# Altium schematic symbol library iv_ic.SchLib: 33 symbols
Pins are listed as number, name and electrical type; pins without a type are passive.

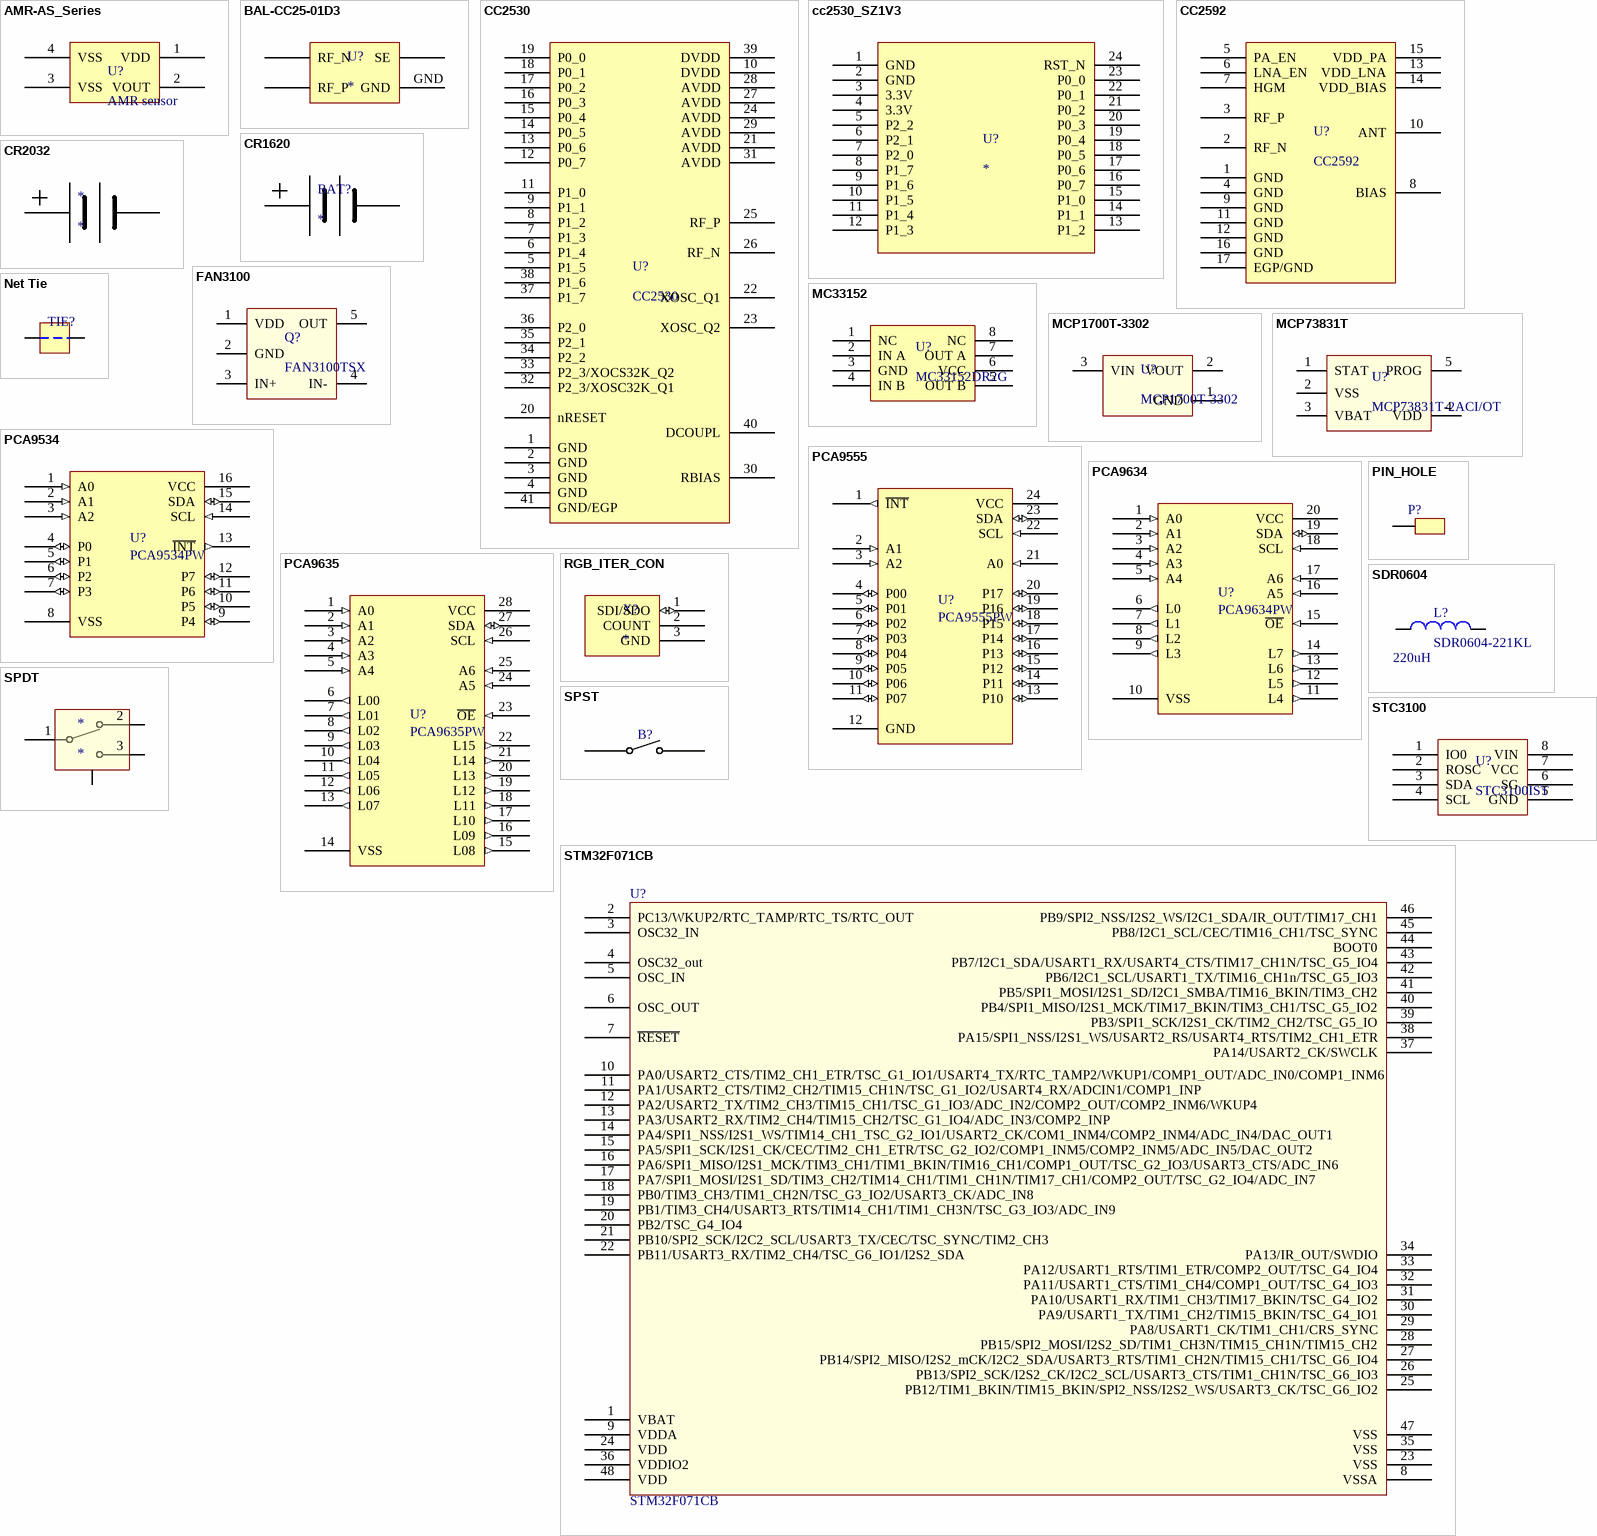
[diagram p0: symbols AMR-AS_Series to STM32F071CB]

## AMR-AS_Series
designator U?, comment AMR sensor
Murata magnetic switch (AMR sensor) AS series
footprint AS-M15KA-R
pins: 1 VDD, 2 VOUT, 3 VSS, 4 VSS

## BAL-CC25-01D3
designator U?
footprint BGA4C50P2X2_94X94X63 (BGA, 4-Leads, Body 0.94x0.94mmx0.63mm, Pitch 0.50mm)
pins: GND, RF_N, RF_P, SE

## CC2530
designator U?
footprint PQFN50P600X600X100_HS-41M (PQFN, 40-Leads, Body 6,00x6,00mm, Pitch 0,50mm, Thermal Pad 4,5x4,5mm, IPC Low Density)
pins: 1 GND, 2 GND, 3 GND, 4 GND, 5 P1_5, 6 P1_4, 7 P1_3, 8 P1_2, 9 P1_1, 10 DVDD, 11 P1_0, 12 P0_7, 13 P0_6, 14 P0_5, 15 P0_4, 16 P0_3, 17 P0_2, 18 P0_1, 19 P0_0, 20 nRESET, 21 AVDD, 22 XOSC_Q1, 23 XOSC_Q2, 24 AVDD, 25 RF_P, 26 RF_N, 27 AVDD, 28 AVDD, 29 AVDD, 30 RBIAS, 31 AVDD, 32 P2_3/XOSC32K_Q1, 33 P2_3/XOCS32K_Q2, 34 P2_2, 35 P2_1, 36 P2_0, 37 P1_7, 38 P1_6, 39 DVDD, 40 DCOUPL, 41 GND/EGP

## cc2530_SZ1V3
designator U?
footprint CC2530_MODULE (SOIC, 24-Leads, Body 10.30x20.33mm, Pitch 1.27mm, IPC Medium Density)
footprint CC2530_MODULE TH (SOIC, 24-Leads, Body 10.30x20.33mm, Pitch 1.27mm, IPC Medium Density)
pins: 1 GND, 2 GND, 3 3.3V, 4 3.3V, 5 P2_2, 6 P2_1, 7 P2_0, 8 P1_7, 9 P1_6, 10 P1_5, 11 P1_4, 12 P1_3, 13 P1_2, 14 P1_1, 15 P1_0, 16 P0_7, 17 P0_6, 18 P0_5, 19 P0_4, 20 P0_3, 21 P0_2, 22 P0_1, 23 P0_0, 24 RST_N

## CC2592
designator U?
pins: 1 GND, 2 RF_N, 3 RF_P, 4 GND, 5 PA_EN, 6 LNA_EN, 7 HGM, 8 BIAS, 9 GND, 10 ANT, 11 GND, 12 GND, 13 VDD_LNA, 14 VDD_BIAS, 15 VDD_PA, 16 GND, 17 EGP/GND

## CR1620
designator BAT?
footprint BHX1-1620-SM
pins: 1 +, 2 -

## CR2032
designator *
footprint BH810
footprint CH-28-2032
footprint BK-888
pins: 1 +, 2 -

## FAN3100
designator Q?, comment FAN3100TSX
footprint SOT95P285X115-5M (SOT23, 5-Leads, Body 2,95x2,85mm, Pitch 0,95mm, IPC Low Density)
footprint SOT95P285X115-5N (SOT23, 5-Leads, Body 2,95x2,85mm, Pitch 0,95mm, IPC Medium Density)
footprint SOT95P285X115-5L (SOT23, 5-Leads, Body 2,95x2,85mm, Pitch 0,95mm, IPC High Density)
pins: 1 VDD, 2 GND, 3 IN+, 4 IN-, 5 OUT

## MC33152
designator U?, comment MC33152DR2G
High Speed Dual  MOSFET Drivers
footprint SO-8_M (SOIC, 8-Leads, Body 4.9x3.9mm, Pitch 1.27mm, IPC Low Density)
footprint SO-8_L (SOIC, 8-Leads, Body 4.9x3.9mm, Pitch 1.27mm, IPC High Density)
footprint SO-8_N (SOIC, 8-Leads, Body 4.9x3.9mm, Pitch 1.27mm, IPC Medium Density)
pins: 1 NC, 2 IN A, 3 GND, 4 IN B, 5 OUT B, 6 VCC, 7 OUT A, 8 NC

## MCP1700T-3302
designator U?
Low Quiescent Current LDO, 3-Pin SOT-23, Extended Temperature, Tape and Reel
footprint SOT95P248X115-3L (SOT23, 3-Leads, Body 2,95x2,48mm, Pitch 0,95mm, IPC High Density)
footprint SOT95P248X115-3M (SOT23, 3-Leads, Body 2,95x2,48mm, Pitch 0,95mm, IPC Low Density)
footprint SOT95P248X115-3N (SOT23, 3-Leads, Body 2,95x2,48mm, Pitch 0,95mm, IPC Medium Density)
pins: 1 GND, 2 VOUT, 3 VIN

## MCP73831T
designator U?, comment MCP73831T-2ACI/OT
Miniature Single-Cell, Fully Integrated Li-Ion, Li-Polymer Charge Management Controller, 4.35V, 5-Pin SOT-23, Industrial Temperature, Tape and Reel
footprint SOT95P285X115-5L (SOT23, 5-Leads, Body 2,95x2,85mm, Pitch 0,95mm, IPC High Density)
footprint SOT95P285X115-5M (SOT23, 5-Leads, Body 2,95x2,85mm, Pitch 0,95mm, IPC Low Density)
footprint SOT95P285X115-5N (SOT23, 5-Leads, Body 2,95x2,85mm, Pitch 0,95mm, IPC Medium Density)
pins: 1 STAT, 2 VSS, 3 VBAT, 4 VDD, 5 PROG

## Net Tie
designator TIE?  (value not drawn)  (net tie, no BOM)
PCB Net tie
footprint TIE
pins: 0, 0

## PCA9534
designator U?, comment PCA9534PW
8-bit I2C-bus and SMBus low power I/O port with interrupt
footprint TSOP65P640X120-16L (TSOP, 16-Leads, Body 5.00x4.40mm, Pitch 0.65mm, IPC High Density)
footprint TSOP65P640X120-16M (TSOP, 16-Leads, Body 5.00x4.40mm, Pitch 0.65mm, IPC Low Density)
footprint TSOP65P640X120-16N (TSOP, 16-Leads, Body 5.00x4.40mm, Pitch 0.65mm, IPC Medium Density)
pins: 1 A0 (in), 2 A1 (in), 3 A2 (in), 4 P0 (io), 5 P1 (io), 6 P2 (io), 7 P3 (io), 8 VSS (power), 9 P4 (io), 10 P5 (io), 11 P6 (io), 12 P7 (io), 13 ~{INT} (out), 14 SCL (in), 15 SDA (io), 16 VCC (power)

## PCA9555
designator U?, comment PCA9555PW
16-Bit I2C and SMBus I/O Expander
footprint TSOP65P640X120-24L (TSOP, 24-Leads, Body 7.80x4.40mm, Pitch 0.65mm, IPC High Density)
footprint TSOP65P640X120-24M (TSOP, 24-Leads, Body 7.80x4.40mm, Pitch 0.65mm, IPC Low Density)
footprint TSOP65P640X120-24N (TSOP, 24-Leads, Body 7.80x4.40mm, Pitch 0.65mm, IPC Medium Density)
pins: 1 ~{INT} (out), 2 A1 (in), 3 A2 (in), 4 P00 (io), 5 P01 (io), 6 P02 (io), 7 P03 (io), 8 P04 (io), 9 P05 (io), 10 P06 (io), 11 P07 (io), 12 GND, 13 P10 (io), 14 P11 (io), 15 P12 (io), 16 P13 (io), 17 P14 (io), 18 P15 (io), 19 P16 (io), 20 P17 (io), 21 A0 (in), 22 SCL (in), 23 SDA (io), 24 VCC (power)

## PCA9634
designator U?, comment PCA9634PW
8-bit Fm+ I2C-bus LED driver
footprint TSOP65P640X120-20L (TSOP, 20-Leads, Body 6.50x4.40mm, Pitch 0.65mm, IPC High Density)
footprint TSOP65P640X120-20M (TSOP, 20-Leads, Body 6.50x4.40mm, Pitch 0.65mm, IPC Low Density)
footprint TSOP65P640X120-20N (TSOP, 20-Leads, Body 6.50x4.40mm, Pitch 0.65mm, IPC Medium Density)
pins: 1 A0 (in), 2 A1 (in), 3 A2 (in), 4 A3 (in), 5 A4 (in), 6 L0 (out), 7 L1 (out), 8 L2 (out), 9 L3 (out), 10 VSS (power), 11 L4 (out), 12 L5 (out), 13 L6 (out), 14 L7 (out), 15 ~{OE} (in), 16 A5 (in), 17 A6 (in), 18 SCL (in), 19 SDA (io), 20 VCC (power)

## PCA9635
designator U?, comment PCA9635PW
16-bit Fm+ I2C-bus LED driver
footprint TSOP65P640X120-28L (TSOP, 28-Leads, Body 9.70x4.40mm, Pitch 0.65mm, IPC High Density)
footprint TSOP65P640X120-28M (TSOP, 28-Leads, Body 9.70x4.40mm, Pitch 0.65mm, IPC Low Density)
footprint TSOP65P640X120-28N (TSOP, 28-Leads, Body 9.70x4.40mm, Pitch 0.65mm, IPC Medium Density)
pins: 1 A0 (in), 2 A1 (in), 3 A2 (in), 4 A3 (in), 5 A4 (in), 6 L00 (out), 7 L01 (out), 8 L02 (out), 9 L03 (out), 10 L04 (out), 11 L05 (out), 12 L06 (out), 13 L07 (out), 14 VSS (power), 15 L08 (out), 16 L09 (out), 17 L10 (out), 18 L11 (out), 19 L12 (out), 20 L13 (out), 21 L14 (out), 22 L15 (out), 23 ~{OE} (in), 24 A5 (in), 25 A6 (in), 26 SCL (in), 27 SDA (io), 28 VCC (power)

## PIN_HOLE
designator P?  (value not drawn)
footprint HOLE_1mm
footprint HOLE_1.5mm
pins: 1

## RGB_ITER_CON
designator X?
WF-02 connector for rgb dimmer chaining
footprint WB-03R
pins: 1 SDI/SDO (io), 2 COUNT, 3 GND

## SDR0604
designator L?, comment SDR0604-221KL  value 220uH
footprint SDR0604
pins: 1, 2

## SPDT
designator *
footprint SPDT_SW
pins: 1, 2, 3, 4

## SPST
designator B?, comment Button  (value not drawn)
SPST tactile button
footprint BTN_COMMON
footprint BTN_IT-1189U
pins: 1, 2

## STC3100
designator U?, comment STC3100IST
Battery monitor IC with Coulomb counter/gas gauge
footprint TSSOP65P400X110-8N (TSSOP, 8 Leads, Body 3.1x3.1mm (max), lead span 4.0mm, Pitch 0.65mm, IPC Medium Density)
pins: 1 IO0, 2 ROSC, 3 SDA, 4 SCL, 5 GND, 6 SG, 7 VCC, 8 VIN

## STM32F071CB
designator U?
footprint TSQFP50P900X900X160-48N (TSQFP, 48-Leads, Body 7,00x7,00mm, Pitch 0,50mm, IPC Medium Density)
pins: 1 VBAT, 2 PC13/WKUP2/RTC_TAMP/RTC_TS/RTC_OUT, 3 OSC32_IN, 4 OSC32_out, 5 OSC_IN, 6 OSC_OUT, 7 ~{RESET}, 8 VSSA, 9 VDDA, 10 PA0/USART2_CTS/TIM2_CH1_ETR/TSC_G1_IO1/USART4_TX/RTC_TAMP2/WKUP1/COMP1_OUT/ADC_IN0/COMP1_INM6, 11 PA1/USART2_CTS/TIM2_CH2/TIM15_CH1N/TSC_G1_IO2/USART4_RX/ADCIN1/COMP1_INP, 12 PA2/USART2_TX/TIM2_CH3/TIM15_CH1/TSC_G1_IO3/ADC_IN2/COMP2_OUT/COMP2_INM6/WKUP4, 13 PA3/USART2_RX/TIM2_CH4/TIM15_CH2/TSC_G1_IO4/ADC_IN3/COMP2_INP, 14 PA4/SPI1_NSS/I2S1_WS/TIM14_CH1_TSC_G2_IO1/USART2_CK/COM1_INM4/COMP2_INM4/ADC_IN4/DAC_OUT1, 15 PA5/SPI1_SCK/I2S1_CK/CEC/TIM2_CH1_ETR/TSC_G2_IO2/COMP1_INM5/COMP2_INM5/ADC_IN5/DAC_OUT2, 16 PA6/SPI1_MISO/I2S1_MCK/TIM3_CH1/TIM1_BKIN/TIM16_CH1/COMP1_OUT/TSC_G2_IO3/USART3_CTS/ADC_IN6, 17 PA7/SPI1_MOSI/I2S1_SD/TIM3_CH2/TIM14_CH1/TIM1_CH1N/TIM17_CH1/COMP2_OUT/TSC_G2_IO4/ADC_IN7, 18 PB0/TIM3_CH3/TIM1_CH2N/TSC_G3_IO2/USART3_CK/ADC_IN8, 19 PB1/TIM3_CH4/USART3_RTS/TIM14_CH1/TIM1_CH3N/TSC_G3_IO3/ADC_IN9, 20 PB2/TSC_G4_IO4, 21 PB10/SPI2_SCK/I2C2_SCL/USART3_TX/CEC/TSC_SYNC/TIM2_CH3, 22 PB11/USART3_RX/TIM2_CH4/TSC_G6_IO1/I2S2_SDA, 23 VSS, 24 VDD, 25 PB12/TIM1_BKIN/TIM15_BKIN/SPI2_NSS/I2S2_WS/USART3_CK/TSC_G6_IO2, 26 PB13/SPI2_SCK/I2S2_CK/I2C2_SCL/USART3_CTS/TIM1_CH1N/TSC_G6_IO3, 27 PB14/SPI2_MISO/I2S2_mCK/I2C2_SDA/USART3_RTS/TIM1_CH2N/TIM15_CH1/TSC_G6_IO4, 28 PB15/SPI2_MOSI/I2S2_SD/TIM1_CH3N/TIM15_CH1N/TIM15_CH2, 29 PA8/USART1_CK/TIM1_CH1/CRS_SYNC, 30 PA9/USART1_TX/TIM1_CH2/TIM15_BKIN/TSC_G4_IO1, 31 PA10/USART1_RX/TIM1_CH3/TIM17_BKIN/TSC_G4_IO2, 32 PA11/USART1_CTS/TIM1_CH4/COMP1_OUT/TSC_G4_IO3, 33 PA12/USART1_RTS/TIM1_ETR/COMP2_OUT/TSC_G4_IO4, 34 PA13/IR_OUT/SWDIO, 35 VSS, 36 VDDIO2, 37 PA14/USART2_CK/SWCLK, 38 PA15/SPI1_NSS/I2S1_WS/USART2_RS/USART4_RTS/TIM2_CH1_ETR, 39 PB3/SPI1_SCK/I2S1_CK/TIM2_CH2/TSC_G5_IO, 40 PB4/SPI1_MISO/I2S1_MCK/TIM17_BKIN/TIM3_CH1/TSC_G5_IO2, 41 PB5/SPI1_MOSI/I2S1_SD/I2C1_SMBA/TIM16_BKIN/TIM3_CH2, 42 PB6/I2C1_SCL/USART1_TX/TIM16_CH1n/TSC_G5_IO3, 43 PB7/I2C1_SDA/USART1_RX/USART4_CTS/TIM17_CH1N/TSC_G5_IO4, 44 BOOT0, 45 PB8/I2C1_SCL/CEC/TIM16_CH1/TSC_SYNC, 46 PB9/SPI2_NSS/I2S2_WS/I2C1_SDA/IR_OUT/TIM17_CH1, 47 VSS, 48 VDD

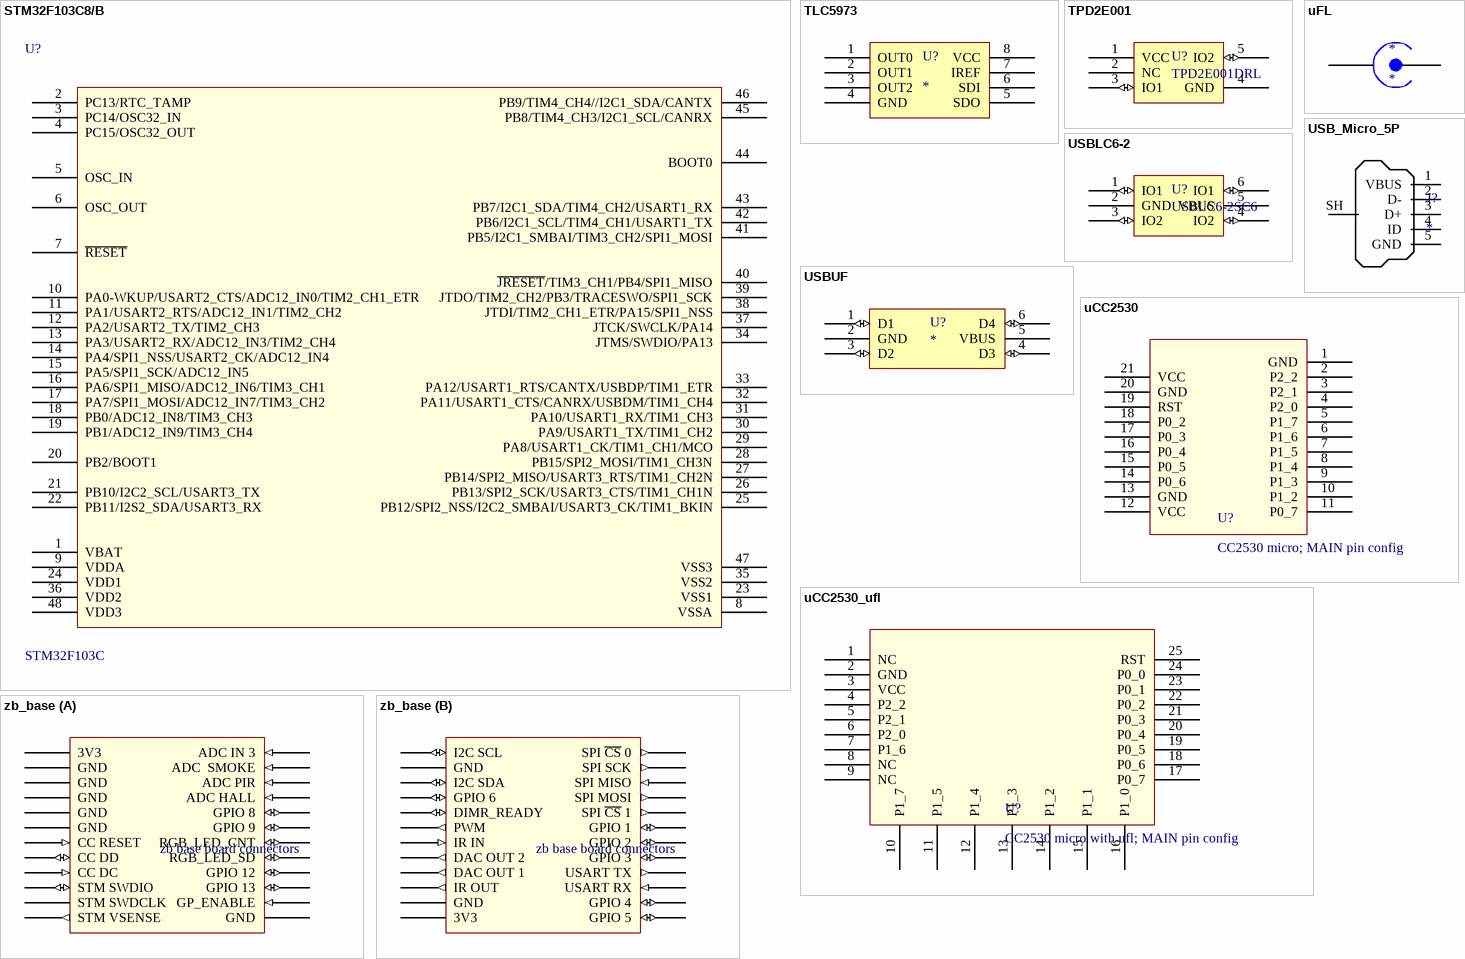
[diagram p1: symbols STM32F103C8/B to zb_base]

## STM32F103C8/B
designator U?, comment STM32F103C
footprint TSQFP50P900X900X160-48N (TSQFP, 48-Leads, Body 7,00x7,00mm, Pitch 0,50mm, IPC Medium Density)
pins: 1 VBAT, 2 PC13/RTC_TAMP, 3 PC14/OSC32_IN, 4 PC15/OSC32_OUT, 5 OSC_IN, 6 OSC_OUT, 7 ~{RESET}, 8 VSSA, 9 VDDA, 10 PA0-WKUP/USART2_CTS/ADC12_IN0/TIM2_CH1_ETR, 11 PA1/USART2_RTS/ADC12_IN1/TIM2_CH2, 12 PA2/USART2_TX/TIM2_CH3, 13 PA3/USART2_RX/ADC12_IN3/TIM2_CH4, 14 PA4/SPI1_NSS/USART2_CK/ADC12_IN4, 15 PA5/SPI1_SCK/ADC12_IN5, 16 PA6/SPI1_MISO/ADC12_IN6/TIM3_CH1, 17 PA7/SPI1_MOSI/ADC12_IN7/TIM3_CH2, 18 PB0/ADC12_IN8/TIM3_CH3, 19 PB1/ADC12_IN9/TIM3_CH4, 20 PB2/BOOT1, 21 PB10/I2C2_SCL/USART3_TX, 22 PB11/I2S2_SDA/USART3_RX, 23 VSS1, 24 VDD1, 25 PB12/SPI2_NSS/I2C2_SMBAI/USART3_CK/TIM1_BKIN, 26 PB13/SPI2_SCK/USART3_CTS/TIM1_CH1N, 27 PB14/SPI2_MISO/USART3_RTS/TIM1_CH2N, 28 PB15/SPI2_MOSI/TIM1_CH3N, 29 PA8/USART1_CK/TIM1_CH1/MCO, 30 PA9/USART1_TX/TIM1_CH2, 31 PA10/USART1_RX/TIM1_CH3, 32 PA11/USART1_CTS/CANRX/USBDM/TIM1_CH4, 33 PA12/USART1_RTS/CANTX/USBDP/TIM1_ETR, 34 JTMS/SWDIO/PA13, 35 VSS2, 36 VDD2, 37 JTCK/SWCLK/PA14, 38 JTDI/TIM2_CH1_ETR/PA15/SPI1_NSS, 39 JTDO/TIM2_CH2/PB3/TRACESWO/SPI1_SCK, 40 ~{JRESET}/TIM3_CH1/PB4/SPI1_MISO, 41 PB5/I2C1_SMBAI/TIM3_CH2/SPI1_MOSI, 42 PB6/I2C1_SCL/TIM4_CH1/USART1_TX, 43 PB7/I2C1_SDA/TIM4_CH2/USART1_RX, 44 BOOT0, 45 PB8/TIM4_CH3/I2C1_SCL/CANRX, 46 PB9/TIM4_CH4//I2C1_SDA/CANTX, 47 VSS3, 48 VDD3

## TLC5973
designator U?
footprint SOIC127P600X175-8N (SOIC, 8-Leads, Body 4,90x3,90mm, Pitch 1,27mm, IPC Medium Density)
pins: 1 OUT0, 2 OUT1, 3 OUT2, 4 GND, 5 SDO, 6 SDI, 7 IREF, 8 VCC

## TPD2E001
designator U?, comment TPD2E001DRL
2-Channel ESD-Protection for High-Speed Data Interfaces
footprint SOTFL50P160X60-5L (SOTFL, 5-Leads, Body 1.60x1.60mm, Pitch 0.50mm, IPC High Density)
footprint SOTFL50P160X60-5M (SOTFL, 5-Leads, Body 1.60x1.60mm, Pitch 0.50mm, IPC Low Density)
footprint SOTFL50P160X60-5N (SOTFL, 5-Leads, Body 1.60x1.60mm, Pitch 0.50mm, IPC Medium Density)
pins: 1 VCC (power), 2 NC, 3 IO1 (io), 4 GND (power), 5 IO2 (io)

## uFL
designator *
footprint uFL
pins: 1, 2

## USB_Micro_5P
designator J?
footprint USB_MICRO_AB (Tom mount usb SD-47590-001)
pins: 1 VBUS, 2 D-, 3 D+, 4 ID, 5 GND, SH

## USBLC6-2
designator U?, comment USBLC6-2SC6
Very low capacitance ESD protection
footprint SOT95P285X115-6L (SOT23, 6-Leads, Body 2,95x2,85mm, Pitch 0,95mm, IPC High Density)
footprint SOT95P285X115-6M (SOT23, 6-Leads, Body 2,95x2,85mm, Pitch 0,95mm, IPC Low Density)
footprint SOT95P285X115-6N (SOT23, 6-Leads, Body 2,95x2,85mm, Pitch 0,95mm, IPC Medium Density)
pins: 1 IO1 (io), 2 GND (power), 3 IO2 (io), 4 IO2 (io), 5 VBUS (power), 6 IO1 (io)

## USBUF
designator U?
EMI filter and line termination for USB upstream ports
pins: 1 D1 (io), 2 GND (power), 3 D2 (io), 4 D3 (io), 5 VBUS (power), 6 D4 (io)

## uСС2530
designator U?, comment CC2530 micro; MAIN pin config
CC2530 module 13x18mm
footprint uCC2530
pins: 1 GND, 2 P2_2, 3 P2_1, 4 P2_0, 5 P1_7, 6 P1_6, 7 P1_5, 8 P1_4, 9 P1_3, 10 P1_2, 11 P0_7, 12 VCC, 13 GND, 14 P0_6, 15 P0_5, 16 P0_4, 17 P0_3, 18 P0_2, 19 RST, 20 GND, 21 VCC

## uСС2530_ufl
designator U?, comment CC2530 micro with ufl; MAIN pin config
RL-CC2530-S3 CC2530 module 12x16mm
footprint RL-CC2530-S3
pins: 1 NC, 2 GND, 3 VCC, 4 P2_2, 5 P2_1, 6 P2_0, 7 P1_6, 8 NC, 9 NC, 10 P1_7, 11 P1_5, 12 P1_4, 13 P1_3, 14 P1_2, 15 P1_1, 16 P1_0, 17 P0_7, 18 P0_6, 19 P0_5, 20 P0_4, 21 P0_3, 22 P0_2, 23 P0_1, 24 P0_0, 25 RST

## zb_base
designator U?, comment zb base board connectors
Yutim ZigBee Board
footprint zb_base
part A pins: 1 3V3, 2 GND, 3 GND, 4 GND, 5 GND, 6 GND, 7 CC RESET (in), 8 CC DD (io), 9 CC DC (in), 10 STM SWDIO (io), 11 STM SWDCLK, 12 STM VSENSE (out), 13 ADC IN 3 (in), 14 ADC  SMOKE (in), 15 ADC PIR (in), 16 ADC HALL (in), 17 GPIO 8 (io), 18 GPIO 9 (io), 19 RGB_LED_CNT (io), 20 RGB_LED_SD (io), 21 GPIO 12 (io), 22 GPIO 13 (io), 23 GP_ENABLE (in), 24 GND
part B pins: 25 I2C SCL (io), 26 GND, 27 I2C SDA (io), 28 GPIO 6 (io), 29 DIMR_READY (io), 30 PWM (out), 31 IR IN (in), 32 DAC OUT 2 (out), 33 DAC OUT 1 (out), 34 IR OUT (out), 35 GND, 36 3V3, 37 SPI ~{CS} 0 (out), 38 SPI SCK (out), 39 SPI MISO (in), 40 SPI MOSI (out), 41 SPI ~{CS} 1 (out), 42 GPIO 1 (io), 43 GPIO 2 (io), 44 GPIO 3 (io), 45 USART TX (out), 46 USART RX (in), 47 GPIO 4 (io), 48 GPIO 5 (io)